# Altium integrated library Microchip dsPIC33E.IntLib: 190 symbols (part 8 of 15)
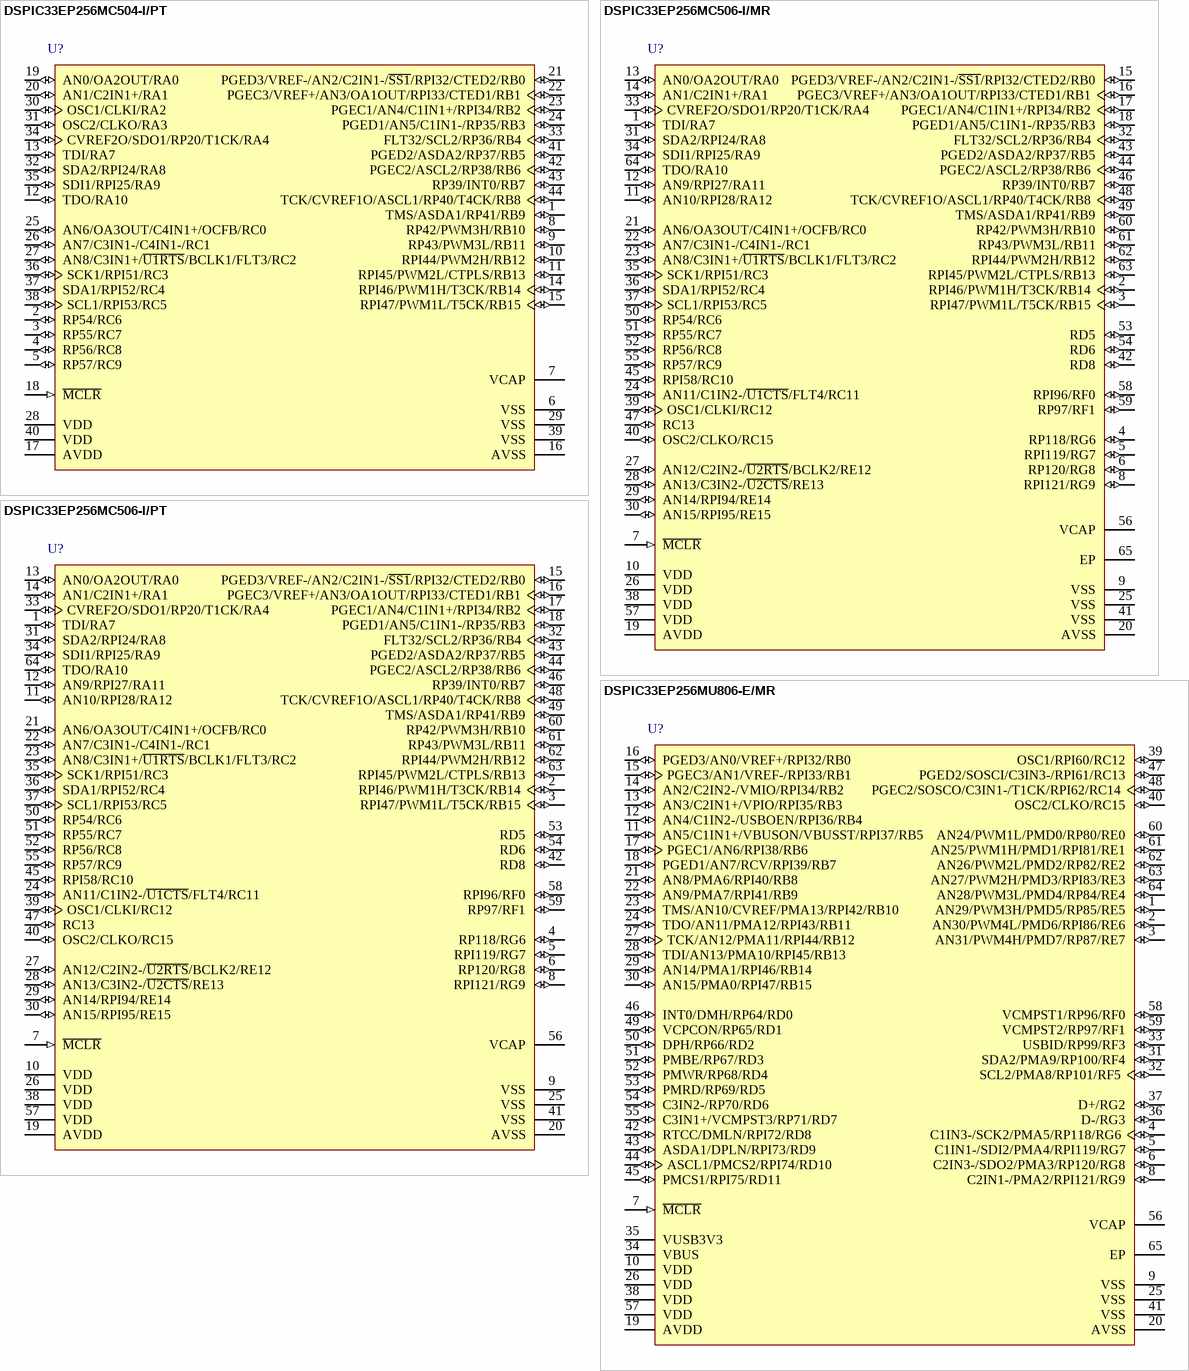
[diagram p69: symbols DSPIC33EP256MC504-I/PT to DSPIC33EP256MU806-E/MR]

## DSPIC33EP256MC504-I/PT
designator U?
16-Bit Microcontroller and Digital Signal Controller with High-Speed PWM, Op Amps and Advanced Analog, 70 MIPS, 35 I/O, GPIO, -40 to 85 degC, 44-pin TQFP (PT44), Tray; Manufacturer: Microchip; PartNumber: DSPIC33EP256MC504-I/PT; DatasheetVersion: Rev. F; PackageVersion: C04-076B; PackageReference: TQFP-PT44; PackageDescription: 44-Lead Plastic Thin Quad Flatpack, 10 x 10 mm Body, 0.8 mm Pitch; Supplier 1: Digi-Key; Supplier Part Number 1: DSPIC33EP256MC504-I/PT-ND; Supplier 2: Farnell; Supplier Part Number 2: 2212184; Supplier 3: Newark; Supplier Part Number 3: 66T8034; Supplier 4: Mouser; Supplier Part Number 4: 579-PC33256MC504IPT; Mounting Technology: Surface Mount; ComponentLink1Description: Manufacturer URL; ComponentLink1URL: http://www.microchip.com; ComponentLink2Description: Datasheet; ComponentLink2URL: http://ww1.microchip.com/downloads/en/DeviceDoc/70657F.pdf; ComponentLink3Description: Package Specification; ComponentLink3URL: http://www.microchip.com/stellent/groups/techpub_sg/documents/packagingspec/en012702.pdf; ComponentLink4Description: Product URL; ComponentLink4URL: http://www.microchip.com/dsPIC33EP256MC504
footprint MCHP-TQFP-PT44_N (QFN, 44-Leads, Body 10x10mm, Pitch 0.8mm, IPC Medium Density)
footprint MCHP-TQFP-PT44_L (QFN, 44-Leads, Body 10x10mm, Pitch 0.8mm, IPC High Density)
footprint MCHP-TQFP-PT44_M (QFN, 44-Leads, Body 10x10mm, Pitch 0.8mm, IPC Low Density)
pins: 1 TMS/ASDA1/RP41/RB9 (io), 2 RP54/RC6 (io), 3 RP55/RC7 (io), 4 RP56/RC8 (io), 5 RP57/RC9 (io), 6 VSS (power) "Ground reference for logic and I/O pins.", 7 VCAP "CPU logic filter capacitor connection", 8 RP42/PWM3H/RB10 (io), 9 RP43/PWM3L/RB11 (io), 10 RPI44/PWM2H/RB12 (io), 11 RPI45/PWM2L/CTPLS/RB13 (io), 12 TDO/RA10 (io), 13 TDI/RA7 (io), 14 RPI46/PWM1H/T3CK/RB14 (io), 15 RPI47/PWM1L/T5CK/RB15 (io), 16 AVSS (power) "Ground reference for analog modules. This pin must be connected at all times.", 17 AVDD (power) "Positive supply for analog modules. This pin must be connected at all times.", 18 ~{MCLR} (in) "Master Clear (Reset) input. This pin is an active-low Reset to the device.", 19 AN0/OA2OUT/RA0 (io), 20 AN1/C2IN1+/RA1 (io), 21 PGED3/VREF-/AN2/C2IN1-/~{SS1}/RPI32/CTED2/RB0 (io), 22 PGEC3/VREF+/AN3/OA1OUT/RPI33/CTED1/RB1 (io), 23 PGEC1/AN4/C1IN1+/RPI34/RB2 (io), 24 PGED1/AN5/C1IN1-/RP35/RB3 (io), 25 AN6/OA3OUT/C4IN1+/OCFB/RC0 (io), 26 AN7/C3IN1-/C4IN1-/RC1 (io), 27 AN8/C3IN1+/~{U1RTS}/BCLK1/FLT3/RC2 (io), 28 VDD (power) "Positive supply for peripheral logic and I/O pins.", 29 VSS (power) "Ground reference for logic and I/O pins.", 30 OSC1/CLKI/RA2 (io), 31 OSC2/CLKO/RA3 (io), 32 SDA2/RPI24/RA8 (io), 33 FLT32/SCL2/RP36/RB4 (io), 34 CVREF2O/SDO1/RP20/T1CK/RA4 (io), 35 SDI1/RPI25/RA9 (io), 36 SCK1/RPI51/RC3 (io), 37 SDA1/RPI52/RC4 (io), 38 SCL1/RPI53/RC5 (io), 39 VSS (power) "Ground reference for logic and I/O pins.", 40 VDD (power) "Positive supply for peripheral logic and I/O pins.", 41 PGED2/ASDA2/RP37/RB5 (io), 42 PGEC2/ASCL2/RP38/RB6 (io), 43 RP39/INT0/RB7 (io), 44 TCK/CVREF1O/ASCL1/RP40/T4CK/RB8 (io)

## DSPIC33EP256MC506-I/MR
designator U?
16-Bit Microcontroller and Digital Signal Controller with High-Speed PWM, Op Amps and Advanced Analog, 70 MIPS, 53 I/O, GPIO, -40 to 85 degC, 64-pin QFN (MR64), Tube; Manufacturer: Microchip; PartNumber: DSPIC33EP256MC506-I/MR; DatasheetVersion: Rev. F; PackageVersion: C04-149C; PackageReference: QFN-MR64; PackageDescription: 64-Lead Plastic Quad Flat, 9 x 9 mm Body, 0.5 mm Pitch; Supplier 1: Digi-Key; Supplier Part Number 1: DSPIC33EP256MC506-I/MR-ND; Supplier 2: Farnell; Supplier Part Number 2: 2212181; Supplier 3: Newark; Supplier Part Number 3: 66T8043; Supplier 4: Mouser; Supplier Part Number 4: 579-PC33256MC506IMR; Mounting Technology: Surface Mount; ComponentLink1Description: Manufacturer URL; ComponentLink1URL: http://www.microchip.com; ComponentLink2Description: Datasheet; ComponentLink2URL: http://ww1.microchip.com/downloads/en/DeviceDoc/70657F.pdf; ComponentLink3Description: Package Specification; ComponentLink3URL: http://www.microchip.com/stellent/groups/techpub_sg/documents/packagingspec/en012702.pdf; ComponentLink4Description: Product URL; ComponentLink4URL: http://www.microchip.com/dsPIC33EP256MC506
footprint MCHP-QFN-MR64-7275X7275TP_N (QFN, 64-Leads, Body 9x9mm, Pitch 0.5mm, Thermal Pad 7.275x7.275mm, IPC Medium Density)
footprint MCHP-QFN-MR64-7275X7275TP_L (QFN, 64-Leads, Body 9x9mm, Pitch 0.5mm, Thermal Pad 7.275x7.275mm, IPC High Density)
footprint MCHP-QFN-MR64-7275X7275TP_M (QFN, 64-Leads, Body 9x9mm, Pitch 0.5mm, Thermal Pad 7.275x7.275mm, IPC Low Density)
pins: 1 TDI/RA7 (io), 2 RPI46/PWM1H/T3CK/RB14 (io), 3 RPI47/PWM1L/T5CK/RB15 (io), 4 RP118/RG6 (io), 5 RPI119/RG7 (io), 6 RP120/RG8 (io), 7 ~{MCLR} (in) "Master Clear (Reset) input. This pin is an active-low Reset to the device.", 8 RPI121/RG9 (io), 9 VSS (power) "Ground reference for logic and I/O pins.", 10 VDD (power) "Positive supply for peripheral logic and I/O pins.", 11 AN10/RPI28/RA12 (io), 12 AN9/RPI27/RA11 (io), 13 AN0/OA2OUT/RA0 (io), 14 AN1/C2IN1+/RA1 (io), 15 PGED3/VREF-/AN2/C2IN1-/~{SS1}/RPI32/CTED2/RB0 (io), 16 PGEC3/VREF+/AN3/OA1OUT/RPI33/CTED1/RB1 (io), 17 PGEC1/AN4/C1IN1+/RPI34/RB2 (io), 18 PGED1/AN5/C1IN1-/RP35/RB3 (io), 19 AVDD (power) "Positive supply for analog modules. This pin must be connected at all times.", 20 AVSS (power) "Ground reference for analog modules. This pin must be connected at all times.", 21 AN6/OA3OUT/C4IN1+/OCFB/RC0 (io), 22 AN7/C3IN1-/C4IN1-/RC1 (io), 23 AN8/C3IN1+/~{U1RTS}/BCLK1/FLT3/RC2 (io), 24 AN11/C1IN2-/~{U1CTS}/FLT4/RC11 (io), 25 VSS (power) "Ground reference for logic and I/O pins.", 26 VDD (power) "Positive supply for peripheral logic and I/O pins.", 27 AN12/C2IN2-/~{U2RTS}/BCLK2/RE12 (io), 28 AN13/C3IN2-/~{U2CTS}/RE13 (io), 29 AN14/RPI94/RE14 (io), 30 AN15/RPI95/RE15 (io), 31 SDA2/RPI24/RA8 (io), 32 FLT32/SCL2/RP36/RB4 (io), 33 CVREF2O/SDO1/RP20/T1CK/RA4 (io), 34 SDI1/RPI25/RA9 (io), 35 SCK1/RPI51/RC3 (io), 36 SDA1/RPI52/RC4 (io), 37 SCL1/RPI53/RC5 (io), 38 VDD (power) "Positive supply for peripheral logic and I/O pins.", 39 OSC1/CLKI/RC12 (io), 40 OSC2/CLKO/RC15 (io), 41 VSS (power) "Ground reference for logic and I/O pins.", 42 RD8 (io) "PORTD is a bidirectional I/O port", 43 PGED2/ASDA2/RP37/RB5 (io), 44 PGEC2/ASCL2/RP38/RB6 (io), 45 RPI58/RC10 (io), 46 RP39/INT0/RB7 (io), 47 RC13 (io) "PORTC is a bidirectional I/O port", 48 TCK/CVREF1O/ASCL1/RP40/T4CK/RB8 (io), 49 TMS/ASDA1/RP41/RB9 (io), 50 RP54/RC6 (io), 51 RP55/RC7 (io), 52 RP56/RC8 (io), 53 RD5 (io) "PORTD is a bidirectional I/O port", 54 RD6 (io) "PORTD is a bidirectional I/O port", 55 RP57/RC9 (io), 56 VCAP "CPU logic filter capacitor connection", 57 VDD (power) "Positive supply for peripheral logic and I/O pins.", 58 RPI96/RF0 (io), 59 RP97/RF1 (io), 60 RP42/PWM3H/RB10 (io), 61 RP43/PWM3L/RB11 (io), 62 RPI44/PWM2H/RB12 (io), 63 RPI45/PWM2L/CTPLS/RB13 (io), 64 TDO/RA10 (io), 65 EP (power) "The metal pad at the bottom of the device is not connected to any pins and is recommended to be connected to VSS externally."

## DSPIC33EP256MC506-I/PT
designator U?
16-Bit Microcontroller and Digital Signal Controller with High-Speed PWM, Op Amps and Advanced Analog, 70 MIPS, 53 I/O, GPIO, -40 to 85 degC, 64-pin TQFP (PT64), Tray; Manufacturer: Microchip; PartNumber: DSPIC33EP256MC506-I/PT; DatasheetVersion: Rev. F; PackageVersion: C04-085B; PackageReference: TQFP-PT64; PackageDescription: 64-Lead Plastic Thin Quad FlatPack, 10 x 10 mm Body, 0.5 mm Pitch; Supplier 1: Digi-Key; Supplier Part Number 1: DSPIC33EP256MC506-I/PT-ND; Supplier 2: Farnell; Supplier Part Number 2: 2212180; Supplier 3: Newark; Supplier Part Number 3: 66T8044; Supplier 4: Newark; Supplier Part Number 4: 55W2354; Supplier 5: Mouser; Supplier Part Number 5: 579-PC33256MC506IPT; Mounting Technology: Surface Mount; ComponentLink1Description: Manufacturer URL; ComponentLink1URL: http://www.microchip.com; ComponentLink2Description: Datasheet; ComponentLink2URL: http://ww1.microchip.com/downloads/en/DeviceDoc/70657F.pdf; ComponentLink3Description: Package Specification; ComponentLink3URL: http://www.microchip.com/stellent/groups/techpub_sg/documents/packagingspec/en012702.pdf; ComponentLink4Description: Product URL; ComponentLink4URL: http://www.microchip.com/dsPIC33EP256MC506
footprint MCHP-TQFP-PT64_N (TQFP, 64-Leads, Body 10x10mm, Pitch 0.5mm, IPC Medium Density)
footprint MCHP-TQFP-PT64_L (TQFP, 64-Leads, Body 10x10mm, Pitch 0.5mm, IPC High Density)
footprint MCHP-TQFP-PT64_M (TQFP, 64-Leads, Body 10x10mm, Pitch 0.5mm, IPC Low Density)
pins: 1 TDI/RA7 (io), 2 RPI46/PWM1H/T3CK/RB14 (io), 3 RPI47/PWM1L/T5CK/RB15 (io), 4 RP118/RG6 (io), 5 RPI119/RG7 (io), 6 RP120/RG8 (io), 7 ~{MCLR} (in) "Master Clear (Reset) input. This pin is an active-low Reset to the device.", 8 RPI121/RG9 (io), 9 VSS (power) "Ground reference for logic and I/O pins.", 10 VDD (power) "Positive supply for peripheral logic and I/O pins.", 11 AN10/RPI28/RA12 (io), 12 AN9/RPI27/RA11 (io), 13 AN0/OA2OUT/RA0 (io), 14 AN1/C2IN1+/RA1 (io), 15 PGED3/VREF-/AN2/C2IN1-/~{SS1}/RPI32/CTED2/RB0 (io), 16 PGEC3/VREF+/AN3/OA1OUT/RPI33/CTED1/RB1 (io), 17 PGEC1/AN4/C1IN1+/RPI34/RB2 (io), 18 PGED1/AN5/C1IN1-/RP35/RB3 (io), 19 AVDD (power) "Positive supply for analog modules. This pin must be connected at all times.", 20 AVSS "Ground reference for analog modules. This pin must be connected at all times.", 21 AN6/OA3OUT/C4IN1+/OCFB/RC0 (io), 22 AN7/C3IN1-/C4IN1-/RC1 (io), 23 AN8/C3IN1+/~{U1RTS}/BCLK1/FLT3/RC2 (io), 24 AN11/C1IN2-/~{U1CTS}/FLT4/RC11 (io), 25 VSS "Ground reference for logic and I/O pins.", 26 VDD (power) "Positive supply for peripheral logic and I/O pins.", 27 AN12/C2IN2-/~{U2RTS}/BCLK2/RE12 (io), 28 AN13/C3IN2-/~{U2CTS}/RE13 (io), 29 AN14/RPI94/RE14 (io), 30 AN15/RPI95/RE15 (io), 31 SDA2/RPI24/RA8 (io), 32 FLT32/SCL2/RP36/RB4 (io), 33 CVREF2O/SDO1/RP20/T1CK/RA4 (io), 34 SDI1/RPI25/RA9 (io), 35 SCK1/RPI51/RC3 (io), 36 SDA1/RPI52/RC4 (io), 37 SCL1/RPI53/RC5 (io), 38 VDD (power) "Positive supply for peripheral logic and I/O pins.", 39 OSC1/CLKI/RC12 (io), 40 OSC2/CLKO/RC15 (io), 41 VSS "Ground reference for logic and I/O pins.", 42 RD8 (io) "PORTD is a bidirectional I/O port", 43 PGED2/ASDA2/RP37/RB5 (io), 44 PGEC2/ASCL2/RP38/RB6 (io), 45 RPI58/RC10 (io), 46 RP39/INT0/RB7 (io), 47 RC13 (io) "PORTC is a bidirectional I/O port", 48 TCK/CVREF1O/ASCL1/RP40/T4CK/RB8 (io), 49 TMS/ASDA1/RP41/RB9 (io), 50 RP54/RC6 (io), 51 RP55/RC7 (io), 52 RP56/RC8 (io), 53 RD5 (io) "PORTD is a bidirectional I/O port", 54 RD6 (io) "PORTD is a bidirectional I/O port", 55 RP57/RC9 (io), 56 VCAP "CPU logic filter capacitor connection", 57 VDD (power) "Positive supply for peripheral logic and I/O pins.", 58 RPI96/RF0 (io), 59 RP97/RF1 (io), 60 RP42/PWM3H/RB10 (io), 61 RP43/PWM3L/RB11 (io), 62 RPI44/PWM2H/RB12 (io), 63 RPI45/PWM2L/CTPLS/RB13 (io), 64 TDO/RA10 (io)

## DSPIC33EP256MU806-E/MR
designator U?
16-Bit Microcontroller and Digital Signal Controller with High-Speed PWM, USB and Advanced Analog, 70 MIPS, 53 I/O, PMP, -40 to 125 degC, 64-pin QFN (MR64), Tube; Manufacturer: Microchip; PartNumber: DSPIC33EP256MU806-E/MR; DatasheetVersion: Rev. G; PackageVersion: C04-149C; PackageReference: QFN-MR64; PackageDescription: 64-Lead Plastic Quad Flat, 9 x 9 mm Body, 0.5 mm Pitch; Supplier 1: Digi-Key; Supplier Part Number 1: DSPIC33EP256MU806-E/MR-ND; Supplier 2: Mouser; Supplier Part Number 2: 579-PIC33256MU806EMR; Mounting Technology: Surface Mount; ComponentLink1Description: Manufacturer URL; ComponentLink1URL: http://www.microchip.com; ComponentLink2Description: Datasheet; ComponentLink2URL: http://ww1.microchip.com/downloads/en/DeviceDoc/70616g.pdf; ComponentLink3Description: Package Specification; ComponentLink3URL: http://www.microchip.com/stellent/groups/techpub_sg/documents/packagingspec/en012702.pdf; ComponentLink4Description: Product URL; ComponentLink4URL: http://www.microchip.com/dsPIC33EP256MU806
footprint MCHP-QFN-MR64-7275X7275TP_N (QFN, 64-Leads, Body 9x9mm, Pitch 0.5mm, Thermal Pad 7.275x7.275mm, IPC Medium Density)
footprint MCHP-QFN-MR64-7275X7275TP_L (QFN, 64-Leads, Body 9x9mm, Pitch 0.5mm, Thermal Pad 7.275x7.275mm, IPC High Density)
footprint MCHP-QFN-MR64-7275X7275TP_M (QFN, 64-Leads, Body 9x9mm, Pitch 0.5mm, Thermal Pad 7.275x7.275mm, IPC Low Density)
pins: 1 AN29/PWM3H/PMD5/RP85/RE5 (io), 2 AN30/PWM4L/PMD6/RPI86/RE6 (io), 3 AN31/PWM4H/PMD7/RP87/RE7 (io), 4 C1IN3-/SCK2/PMA5/RP118/RG6 (io), 5 C1IN1-/SDI2/PMA4/RPI119/RG7 (io), 6 C2IN3-/SDO2/PMA3/RP120/RG8 (io), 7 ~{MCLR} (in) "Master Clear (Reset) input. This pin is an active-low Reset to the device.", 8 C2IN1-/PMA2/RPI121/RG9 (io), 9 VSS (power) "Ground reference for logic and I/O pins.", 10 VDD (power) "Positive supply for peripheral logic and I/O pins.", 11 AN5/C1IN1+/VBUSON/VBUSST/RPI37/RB5 (io), 12 AN4/C1IN2-/USBOEN/RPI36/RB4 (io), 13 AN3/C2IN1+/VPIO/RPI35/RB3 (io), 14 AN2/C2IN2-/VMIO/RPI34/RB2 (io), 15 PGEC3/AN1/VREF-/RPI33/RB1 (io), 16 PGED3/AN0/VREF+/RPI32/RB0 (io), 17 PGEC1/AN6/RPI38/RB6 (io), 18 PGED1/AN7/RCV/RPI39/RB7 (io), 19 AVDD (power) "Positive supply for analog modules. This pin must be connected at all times.", 20 AVSS (power) "Ground reference for analog modules.", 21 AN8/PMA6/RPI40/RB8 (io), 22 AN9/PMA7/RPI41/RB9 (io), 23 TMS/AN10/CVREF/PMA13/RPI42/RB10 (io), 24 TDO/AN11/PMA12/RPI43/RB11 (io), 25 VSS (power) "Ground reference for logic and I/O pins.", 26 VDD (power) "Positive supply for peripheral logic and I/O pins.", 27 TCK/AN12/PMA11/RPI44/RB12 (io), 28 TDI/AN13/PMA10/RPI45/RB13 (io), 29 AN14/PMA1/RPI46/RB14 (io), 30 AN15/PMA0/RPI47/RB15 (io), 31 SDA2/PMA9/RP100/RF4 (io), 32 SCL2/PMA8/RP101/RF5 (io), 33 USBID/RP99/RF3 (io), 34 VBUS (power) "USB bus power monitor.", 35 VUSB3V3 (power) "USB internal transceiver supply. If the USB module is not being used, this pin must be connected to VDD.", 36 D-/RG3 (io), 37 D+/RG2 (io), 38 VDD (power) "Positive supply for peripheral logic and I/O pins.", 39 OSC1/RPI60/RC12 (io), 40 OSC2/CLKO/RC15 (io), 41 VSS (power) "Ground reference for logic and I/O pins.", 42 RTCC/DMLN/RPI72/RD8 (io), 43 ASDA1/DPLN/RPI73/RD9 (io), 44 ASCL1/PMCS2/RPI74/RD10 (io), 45 PMCS1/RPI75/RD11 (io), 46 INT0/DMH/RP64/RD0 (io), 47 PGED2/SOSCI/C3IN3-/RPI61/RC13 (io), 48 PGEC2/SOSCO/C3IN1-/T1CK/RPI62/RC14 (io), 49 VCPCON/RP65/RD1 (io), 50 DPH/RP66/RD2 (io), 51 PMBE/RP67/RD3 (io), 52 PMWR/RP68/RD4 (io), 53 PMRD/RP69/RD5 (io), 54 C3IN2-/RP70/RD6 (io), 55 C3IN1+/VCMPST3/RP71/RD7 (io), 56 VCAP "CPU logic filter capacitor connection.", 57 VDD (power) "Positive supply for peripheral logic and I/O pins.", 58 VCMPST1/RP96/RF0 (io), 59 VCMPST2/RP97/RF1 (io), 60 AN24/PWM1L/PMD0/RP80/RE0 (io), 61 AN25/PWM1H/PMD1/RPI81/RE1 (io), 62 AN26/PWM2L/PMD2/RP82/RE2 (io), 63 AN27/PWM2H/PMD3/RPI83/RE3 (io), 64 AN28/PWM3L/PMD4/RP84/RE4 (io), 65 EP

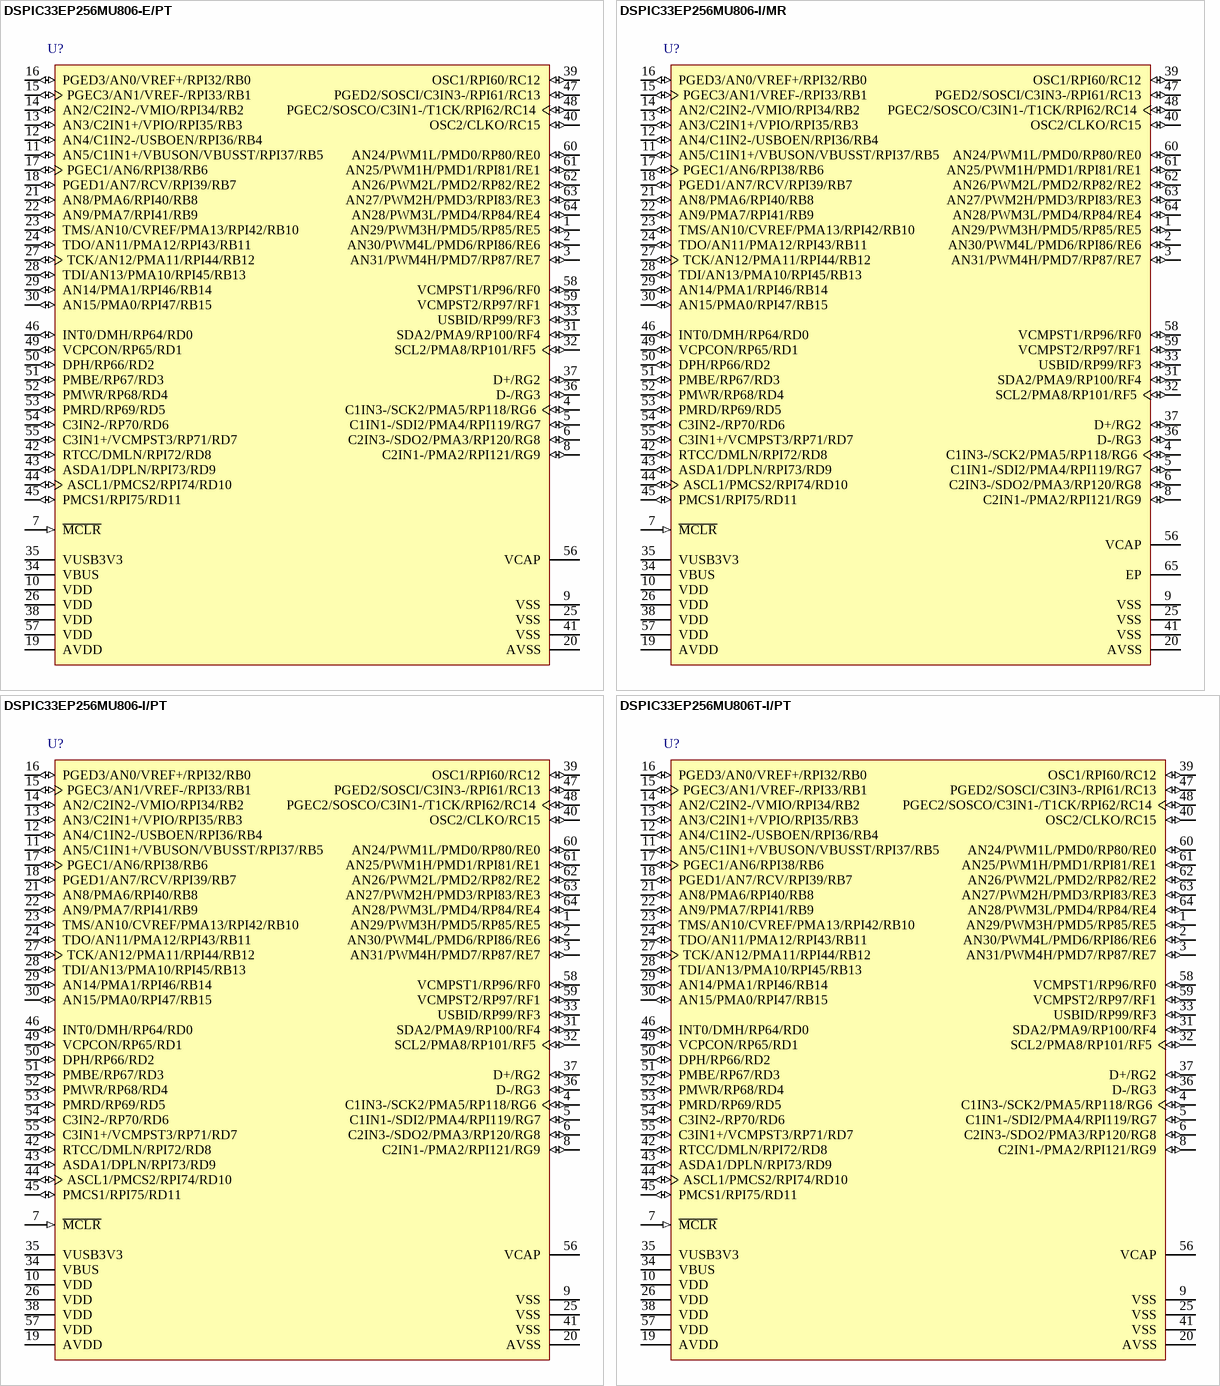
[diagram p24: symbols DSPIC33EP256MU806-E/PT to DSPIC33EP256MU806T-I/PT]

## DSPIC33EP256MU806-E/PT
designator U?
16-Bit Microcontroller and Digital Signal Controller with High-Speed PWM, USB and Advanced Analog, 70 MIPS, 53 I/O, PMP, -40 to 125 degC, 64-pin TQFP (PT64), Tray; Manufacturer: Microchip; PartNumber: DSPIC33EP256MU806-E/PT; DatasheetVersion: Rev. G; PackageVersion: C04-085B; PackageReference: TQFP-PT64; PackageDescription: 64-Lead Plastic Thin Quad FlatPack, 10 x 10 mm Body, 0.5 mm Pitch; Supplier 1: Digi-Key; Supplier Part Number 1: DSPIC33EP256MU806-E/PT-ND; Supplier 2: Newark; Supplier Part Number 2: 65R5388; Supplier 3: Mouser; Supplier Part Number 3: 579-PIC33256MU806T; Mounting Technology: Surface Mount; ComponentLink1Description: Manufacturer URL; ComponentLink1URL: http://www.microchip.com; ComponentLink2Description: Datasheet; ComponentLink2URL: http://ww1.microchip.com/downloads/en/DeviceDoc/70616g.pdf; ComponentLink3Description: Package Specification; ComponentLink3URL: http://www.microchip.com/stellent/groups/techpub_sg/documents/packagingspec/en012702.pdf; ComponentLink4Description: Product URL; ComponentLink4URL: http://www.microchip.com/dsPIC33EP256MU806
footprint MCHP-TQFP-PT64_N (TQFP, 64-Leads, Body 10x10mm, Pitch 0.5mm, IPC Medium Density)
footprint MCHP-TQFP-PT64_L (TQFP, 64-Leads, Body 10x10mm, Pitch 0.5mm, IPC High Density)
footprint MCHP-TQFP-PT64_M (TQFP, 64-Leads, Body 10x10mm, Pitch 0.5mm, IPC Low Density)
pins: 1 AN29/PWM3H/PMD5/RP85/RE5 (io), 2 AN30/PWM4L/PMD6/RPI86/RE6 (io), 3 AN31/PWM4H/PMD7/RP87/RE7 (io), 4 C1IN3-/SCK2/PMA5/RP118/RG6 (io), 5 C1IN1-/SDI2/PMA4/RPI119/RG7 (io), 6 C2IN3-/SDO2/PMA3/RP120/RG8 (io), 7 ~{MCLR} (in) "Master Clear (Reset) input. This pin is an active-low Reset to the device.", 8 C2IN1-/PMA2/RPI121/RG9 (io), 9 VSS (power) "Ground reference for logic and I/O pins.", 10 VDD (power) "Positive supply for peripheral logic and I/O pins.", 11 AN5/C1IN1+/VBUSON/VBUSST/RPI37/RB5 (io), 12 AN4/C1IN2-/USBOEN/RPI36/RB4 (io), 13 AN3/C2IN1+/VPIO/RPI35/RB3 (io), 14 AN2/C2IN2-/VMIO/RPI34/RB2 (io), 15 PGEC3/AN1/VREF-/RPI33/RB1 (io), 16 PGED3/AN0/VREF+/RPI32/RB0 (io), 17 PGEC1/AN6/RPI38/RB6 (io), 18 PGED1/AN7/RCV/RPI39/RB7 (io), 19 AVDD (power) "Positive supply for analog modules. This pin must be connected at all times.", 20 AVSS (power) "Ground reference for analog modules.", 21 AN8/PMA6/RPI40/RB8 (io), 22 AN9/PMA7/RPI41/RB9 (io), 23 TMS/AN10/CVREF/PMA13/RPI42/RB10 (io), 24 TDO/AN11/PMA12/RPI43/RB11 (io), 25 VSS (power) "Ground reference for logic and I/O pins.", 26 VDD (power) "Positive supply for peripheral logic and I/O pins.", 27 TCK/AN12/PMA11/RPI44/RB12 (io), 28 TDI/AN13/PMA10/RPI45/RB13 (io), 29 AN14/PMA1/RPI46/RB14 (io), 30 AN15/PMA0/RPI47/RB15 (io), 31 SDA2/PMA9/RP100/RF4 (io), 32 SCL2/PMA8/RP101/RF5 (io), 33 USBID/RP99/RF3 (io), 34 VBUS (power) "USB bus power monitor.", 35 VUSB3V3 (power) "USB internal transceiver supply. If the USB module is not being used, this pin must be connected to VDD.", 36 D-/RG3 (io), 37 D+/RG2 (io), 38 VDD (power) "Positive supply for peripheral logic and I/O pins.", 39 OSC1/RPI60/RC12 (io), 40 OSC2/CLKO/RC15 (io), 41 VSS (power) "Ground reference for logic and I/O pins.", 42 RTCC/DMLN/RPI72/RD8 (io), 43 ASDA1/DPLN/RPI73/RD9 (io), 44 ASCL1/PMCS2/RPI74/RD10 (io), 45 PMCS1/RPI75/RD11 (io), 46 INT0/DMH/RP64/RD0 (io), 47 PGED2/SOSCI/C3IN3-/RPI61/RC13 (io), 48 PGEC2/SOSCO/C3IN1-/T1CK/RPI62/RC14 (io), 49 VCPCON/RP65/RD1 (io), 50 DPH/RP66/RD2 (io), 51 PMBE/RP67/RD3 (io), 52 PMWR/RP68/RD4 (io), 53 PMRD/RP69/RD5 (io), 54 C3IN2-/RP70/RD6 (io), 55 C3IN1+/VCMPST3/RP71/RD7 (io), 56 VCAP "CPU logic filter capacitor connection.", 57 VDD (power) "Positive supply for peripheral logic and I/O pins.", 58 VCMPST1/RP96/RF0 (io), 59 VCMPST2/RP97/RF1 (io), 60 AN24/PWM1L/PMD0/RP80/RE0 (io), 61 AN25/PWM1H/PMD1/RPI81/RE1 (io), 62 AN26/PWM2L/PMD2/RP82/RE2 (io), 63 AN27/PWM2H/PMD3/RPI83/RE3 (io), 64 AN28/PWM3L/PMD4/RP84/RE4 (io)

## DSPIC33EP256MU806-I/MR
designator U?
16-Bit Microcontroller and Digital Signal Controller with High-Speed PWM, USB and Advanced Analog, 70 MIPS, 53 I/O, PMP, -40 to 85 degC, 64-pin QFN (MR64), Tube; Manufacturer: Microchip; PartNumber: DSPIC33EP256MU806-I/MR; DatasheetVersion: Rev. G; PackageVersion: C04-149C; PackageReference: QFN-MR64; PackageDescription: 64-Lead Plastic Quad Flat, 9 x 9 mm Body, 0.5 mm Pitch; Supplier 1: Digi-Key; Supplier Part Number 1: DSPIC33EP256MU806-I/MR-ND; Supplier 2: Farnell; Supplier Part Number 2: 2074909; Supplier 3: Newark; Supplier Part Number 3: 65R5389; Supplier 4: Mouser; Supplier Part Number 4: 579-PIC33256MU806IMR; Mounting Technology: Surface Mount; ComponentLink1Description: Manufacturer URL; ComponentLink1URL: http://www.microchip.com; ComponentLink2Description: Datasheet; ComponentLink2URL: http://ww1.microchip.com/downloads/en/DeviceDoc/70616g.pdf; ComponentLink3Description: Package Specification; ComponentLink3URL: http://www.microchip.com/stellent/groups/techpub_sg/documents/packagingspec/en012702.pdf; ComponentLink4Description: Product URL; ComponentLink4URL: http://www.microchip.com/dsPIC33EP256MU806
footprint MCHP-QFN-MR64-7275X7275TP_N (QFN, 64-Leads, Body 9x9mm, Pitch 0.5mm, Thermal Pad 7.275x7.275mm, IPC Medium Density)
footprint MCHP-QFN-MR64-7275X7275TP_L (QFN, 64-Leads, Body 9x9mm, Pitch 0.5mm, Thermal Pad 7.275x7.275mm, IPC High Density)
footprint MCHP-QFN-MR64-7275X7275TP_M (QFN, 64-Leads, Body 9x9mm, Pitch 0.5mm, Thermal Pad 7.275x7.275mm, IPC Low Density)
pins: 1 AN29/PWM3H/PMD5/RP85/RE5 (io), 2 AN30/PWM4L/PMD6/RPI86/RE6 (io), 3 AN31/PWM4H/PMD7/RP87/RE7 (io), 4 C1IN3-/SCK2/PMA5/RP118/RG6 (io), 5 C1IN1-/SDI2/PMA4/RPI119/RG7 (io), 6 C2IN3-/SDO2/PMA3/RP120/RG8 (io), 7 ~{MCLR} (in) "Master Clear (Reset) input. This pin is an active-low Reset to the device.", 8 C2IN1-/PMA2/RPI121/RG9 (io), 9 VSS (power) "Ground reference for logic and I/O pins.", 10 VDD (power) "Positive supply for peripheral logic and I/O pins.", 11 AN5/C1IN1+/VBUSON/VBUSST/RPI37/RB5 (io), 12 AN4/C1IN2-/USBOEN/RPI36/RB4 (io), 13 AN3/C2IN1+/VPIO/RPI35/RB3 (io), 14 AN2/C2IN2-/VMIO/RPI34/RB2 (io), 15 PGEC3/AN1/VREF-/RPI33/RB1 (io), 16 PGED3/AN0/VREF+/RPI32/RB0 (io), 17 PGEC1/AN6/RPI38/RB6 (io), 18 PGED1/AN7/RCV/RPI39/RB7 (io), 19 AVDD (power) "Positive supply for analog modules. This pin must be connected at all times.", 20 AVSS (power) "Ground reference for analog modules.", 21 AN8/PMA6/RPI40/RB8 (io), 22 AN9/PMA7/RPI41/RB9 (io), 23 TMS/AN10/CVREF/PMA13/RPI42/RB10 (io), 24 TDO/AN11/PMA12/RPI43/RB11 (io), 25 VSS (power) "Ground reference for logic and I/O pins.", 26 VDD (power) "Positive supply for peripheral logic and I/O pins.", 27 TCK/AN12/PMA11/RPI44/RB12 (io), 28 TDI/AN13/PMA10/RPI45/RB13 (io), 29 AN14/PMA1/RPI46/RB14 (io), 30 AN15/PMA0/RPI47/RB15 (io), 31 SDA2/PMA9/RP100/RF4 (io), 32 SCL2/PMA8/RP101/RF5 (io), 33 USBID/RP99/RF3 (io), 34 VBUS (power) "USB bus power monitor.", 35 VUSB3V3 (power) "USB internal transceiver supply. If the USB module is not being used, this pin must be connected to VDD.", 36 D-/RG3 (io), 37 D+/RG2 (io), 38 VDD (power) "Positive supply for peripheral logic and I/O pins.", 39 OSC1/RPI60/RC12 (io), 40 OSC2/CLKO/RC15 (io), 41 VSS (power) "Ground reference for logic and I/O pins.", 42 RTCC/DMLN/RPI72/RD8 (io), 43 ASDA1/DPLN/RPI73/RD9 (io), 44 ASCL1/PMCS2/RPI74/RD10 (io), 45 PMCS1/RPI75/RD11 (io), 46 INT0/DMH/RP64/RD0 (io), 47 PGED2/SOSCI/C3IN3-/RPI61/RC13 (io), 48 PGEC2/SOSCO/C3IN1-/T1CK/RPI62/RC14 (io), 49 VCPCON/RP65/RD1 (io), 50 DPH/RP66/RD2 (io), 51 PMBE/RP67/RD3 (io), 52 PMWR/RP68/RD4 (io), 53 PMRD/RP69/RD5 (io), 54 C3IN2-/RP70/RD6 (io), 55 C3IN1+/VCMPST3/RP71/RD7 (io), 56 VCAP "CPU logic filter capacitor connection.", 57 VDD (power) "Positive supply for peripheral logic and I/O pins.", 58 VCMPST1/RP96/RF0 (io), 59 VCMPST2/RP97/RF1 (io), 60 AN24/PWM1L/PMD0/RP80/RE0 (io), 61 AN25/PWM1H/PMD1/RPI81/RE1 (io), 62 AN26/PWM2L/PMD2/RP82/RE2 (io), 63 AN27/PWM2H/PMD3/RPI83/RE3 (io), 64 AN28/PWM3L/PMD4/RP84/RE4 (io), 65 EP

## DSPIC33EP256MU806-I/PT
designator U?
16-Bit Microcontroller and Digital Signal Controller with High-Speed PWM, USB and Advanced Analog, 70 MIPS, 53 I/O, PMP, -40 to 85 degC, 64-pin TQFP (PT64), Tray; Manufacturer: Microchip; PartNumber: DSPIC33EP256MU806-I/PT; DatasheetVersion: Rev. G; PackageVersion: C04-085B; PackageReference: TQFP-PT64; PackageDescription: 64-Lead Plastic Thin Quad FlatPack, 10 x 10 mm Body, 0.5 mm Pitch; Supplier 1: Digi-Key; Supplier Part Number 1: DSPIC33EP256MU806-I/PT-ND; Supplier 2: Farnell; Supplier Part Number 2: 1971850; Supplier 3: Farnell; Supplier Part Number 3: 2119666; Supplier 4: Newark; Supplier Part Number 4: 65R5390; Supplier 5: Mouser; Supplier Part Number 5: 579-PIC33256MU806IPT; Mounting Technology: Surface Mount; ComponentLink1Description: Manufacturer URL; ComponentLink1URL: http://www.microchip.com; ComponentLink2Description: Datasheet; ComponentLink2URL: http://ww1.microchip.com/downloads/en/DeviceDoc/70616g.pdf; ComponentLink3Description: Package Specification; ComponentLink3URL: http://www.microchip.com/stellent/groups/techpub_sg/documents/packagingspec/en012702.pdf; ComponentLink4Description: Product URL; ComponentLink4URL: http://www.microchip.com/dsPIC33EP256MU806
footprint MCHP-TQFP-PT64_N (TQFP, 64-Leads, Body 10x10mm, Pitch 0.5mm, IPC Medium Density)
footprint MCHP-TQFP-PT64_L (TQFP, 64-Leads, Body 10x10mm, Pitch 0.5mm, IPC High Density)
footprint MCHP-TQFP-PT64_M (TQFP, 64-Leads, Body 10x10mm, Pitch 0.5mm, IPC Low Density)
pins: 1 AN29/PWM3H/PMD5/RP85/RE5 (io), 2 AN30/PWM4L/PMD6/RPI86/RE6 (io), 3 AN31/PWM4H/PMD7/RP87/RE7 (io), 4 C1IN3-/SCK2/PMA5/RP118/RG6 (io), 5 C1IN1-/SDI2/PMA4/RPI119/RG7 (io), 6 C2IN3-/SDO2/PMA3/RP120/RG8 (io), 7 ~{MCLR} (in) "Master Clear (Reset) input. This pin is an active-low Reset to the device.", 8 C2IN1-/PMA2/RPI121/RG9 (io), 9 VSS (power) "Ground reference for logic and I/O pins.", 10 VDD (power) "Positive supply for peripheral logic and I/O pins.", 11 AN5/C1IN1+/VBUSON/VBUSST/RPI37/RB5 (io), 12 AN4/C1IN2-/USBOEN/RPI36/RB4 (io), 13 AN3/C2IN1+/VPIO/RPI35/RB3 (io), 14 AN2/C2IN2-/VMIO/RPI34/RB2 (io), 15 PGEC3/AN1/VREF-/RPI33/RB1 (io), 16 PGED3/AN0/VREF+/RPI32/RB0 (io), 17 PGEC1/AN6/RPI38/RB6 (io), 18 PGED1/AN7/RCV/RPI39/RB7 (io), 19 AVDD (power) "Positive supply for analog modules. This pin must be connected at all times.", 20 AVSS (power) "Ground reference for analog modules.", 21 AN8/PMA6/RPI40/RB8 (io), 22 AN9/PMA7/RPI41/RB9 (io), 23 TMS/AN10/CVREF/PMA13/RPI42/RB10 (io), 24 TDO/AN11/PMA12/RPI43/RB11 (io), 25 VSS (power) "Ground reference for logic and I/O pins.", 26 VDD (power) "Positive supply for peripheral logic and I/O pins.", 27 TCK/AN12/PMA11/RPI44/RB12 (io), 28 TDI/AN13/PMA10/RPI45/RB13 (io), 29 AN14/PMA1/RPI46/RB14 (io), 30 AN15/PMA0/RPI47/RB15 (io), 31 SDA2/PMA9/RP100/RF4 (io), 32 SCL2/PMA8/RP101/RF5 (io), 33 USBID/RP99/RF3 (io), 34 VBUS (power) "USB bus power monitor.", 35 VUSB3V3 (power) "USB internal transceiver supply. If the USB module is not being used, this pin must be connected to VDD.", 36 D-/RG3 (io), 37 D+/RG2 (io), 38 VDD (power) "Positive supply for peripheral logic and I/O pins.", 39 OSC1/RPI60/RC12 (io), 40 OSC2/CLKO/RC15 (io), 41 VSS (power) "Ground reference for logic and I/O pins.", 42 RTCC/DMLN/RPI72/RD8 (io), 43 ASDA1/DPLN/RPI73/RD9 (io), 44 ASCL1/PMCS2/RPI74/RD10 (io), 45 PMCS1/RPI75/RD11 (io), 46 INT0/DMH/RP64/RD0 (io), 47 PGED2/SOSCI/C3IN3-/RPI61/RC13 (io), 48 PGEC2/SOSCO/C3IN1-/T1CK/RPI62/RC14 (io), 49 VCPCON/RP65/RD1 (io), 50 DPH/RP66/RD2 (io), 51 PMBE/RP67/RD3 (io), 52 PMWR/RP68/RD4 (io), 53 PMRD/RP69/RD5 (io), 54 C3IN2-/RP70/RD6 (io), 55 C3IN1+/VCMPST3/RP71/RD7 (io), 56 VCAP "CPU logic filter capacitor connection.", 57 VDD (power) "Positive supply for peripheral logic and I/O pins.", 58 VCMPST1/RP96/RF0 (io), 59 VCMPST2/RP97/RF1 (io), 60 AN24/PWM1L/PMD0/RP80/RE0 (io), 61 AN25/PWM1H/PMD1/RPI81/RE1 (io), 62 AN26/PWM2L/PMD2/RP82/RE2 (io), 63 AN27/PWM2H/PMD3/RPI83/RE3 (io), 64 AN28/PWM3L/PMD4/RP84/RE4 (io)

## DSPIC33EP256MU806T-I/PT
designator U?
16-Bit Microcontroller and Digital Signal Controller with High-Speed PWM, USB and Advanced Analog, 70 MIPS, 53 I/O, PMP, -40 to 85 degC, 64-pin TQFP (PT64), Tape and Reel; Manufacturer: Microchip; PartNumber: DSPIC33EP256MU806T-I/PT; DatasheetVersion: Rev. G; PackageVersion: C04-085B; PackageReference: TQFP-PT64; PackageDescription: 64-Lead Plastic Thin Quad FlatPack, 10 x 10 mm Body, 0.5 mm Pitch; Supplier 1: Digi-Key; Supplier Part Number 1: DSPIC33EP256MU806T-I/PT-ND; Supplier 2: Mouser; Supplier Part Number 2: 579-PIC33EP256M; Mounting Technology: Surface Mount; ComponentLink1Description: Manufacturer URL; ComponentLink1URL: http://www.microchip.com; ComponentLink2Description: Datasheet; ComponentLink2URL: http://ww1.microchip.com/downloads/en/DeviceDoc/70616g.pdf; ComponentLink3Description: Package Specification; ComponentLink3URL: http://www.microchip.com/stellent/groups/techpub_sg/documents/packagingspec/en012702.pdf; ComponentLink4Description: Product URL; ComponentLink4URL: http://www.microchip.com/dsPIC33EP256MU806
footprint MCHP-TQFP-PT64_N (TQFP, 64-Leads, Body 10x10mm, Pitch 0.5mm, IPC Medium Density)
footprint MCHP-TQFP-PT64_L (TQFP, 64-Leads, Body 10x10mm, Pitch 0.5mm, IPC High Density)
footprint MCHP-TQFP-PT64_M (TQFP, 64-Leads, Body 10x10mm, Pitch 0.5mm, IPC Low Density)
pins: 1 AN29/PWM3H/PMD5/RP85/RE5 (io), 2 AN30/PWM4L/PMD6/RPI86/RE6 (io), 3 AN31/PWM4H/PMD7/RP87/RE7 (io), 4 C1IN3-/SCK2/PMA5/RP118/RG6 (io), 5 C1IN1-/SDI2/PMA4/RPI119/RG7 (io), 6 C2IN3-/SDO2/PMA3/RP120/RG8 (io), 7 ~{MCLR} (in) "Master Clear (Reset) input. This pin is an active-low Reset to the device.", 8 C2IN1-/PMA2/RPI121/RG9 (io), 9 VSS (power) "Ground reference for logic and I/O pins.", 10 VDD (power) "Positive supply for peripheral logic and I/O pins.", 11 AN5/C1IN1+/VBUSON/VBUSST/RPI37/RB5 (io), 12 AN4/C1IN2-/USBOEN/RPI36/RB4 (io), 13 AN3/C2IN1+/VPIO/RPI35/RB3 (io), 14 AN2/C2IN2-/VMIO/RPI34/RB2 (io), 15 PGEC3/AN1/VREF-/RPI33/RB1 (io), 16 PGED3/AN0/VREF+/RPI32/RB0 (io), 17 PGEC1/AN6/RPI38/RB6 (io), 18 PGED1/AN7/RCV/RPI39/RB7 (io), 19 AVDD (power) "Positive supply for analog modules. This pin must be connected at all times.", 20 AVSS (power) "Ground reference for analog modules.", 21 AN8/PMA6/RPI40/RB8 (io), 22 AN9/PMA7/RPI41/RB9 (io), 23 TMS/AN10/CVREF/PMA13/RPI42/RB10 (io), 24 TDO/AN11/PMA12/RPI43/RB11 (io), 25 VSS (power) "Ground reference for logic and I/O pins.", 26 VDD (power) "Positive supply for peripheral logic and I/O pins.", 27 TCK/AN12/PMA11/RPI44/RB12 (io), 28 TDI/AN13/PMA10/RPI45/RB13 (io), 29 AN14/PMA1/RPI46/RB14 (io), 30 AN15/PMA0/RPI47/RB15 (io), 31 SDA2/PMA9/RP100/RF4 (io), 32 SCL2/PMA8/RP101/RF5 (io), 33 USBID/RP99/RF3 (io), 34 VBUS (power) "USB bus power monitor.", 35 VUSB3V3 (power) "USB internal transceiver supply. If the USB module is not being used, this pin must be connected to VDD.", 36 D-/RG3 (io), 37 D+/RG2 (io), 38 VDD (power) "Positive supply for peripheral logic and I/O pins.", 39 OSC1/RPI60/RC12 (io), 40 OSC2/CLKO/RC15 (io), 41 VSS (power) "Ground reference for logic and I/O pins.", 42 RTCC/DMLN/RPI72/RD8 (io), 43 ASDA1/DPLN/RPI73/RD9 (io), 44 ASCL1/PMCS2/RPI74/RD10 (io), 45 PMCS1/RPI75/RD11 (io), 46 INT0/DMH/RP64/RD0 (io), 47 PGED2/SOSCI/C3IN3-/RPI61/RC13 (io), 48 PGEC2/SOSCO/C3IN1-/T1CK/RPI62/RC14 (io), 49 VCPCON/RP65/RD1 (io), 50 DPH/RP66/RD2 (io), 51 PMBE/RP67/RD3 (io), 52 PMWR/RP68/RD4 (io), 53 PMRD/RP69/RD5 (io), 54 C3IN2-/RP70/RD6 (io), 55 C3IN1+/VCMPST3/RP71/RD7 (io), 56 VCAP "CPU logic filter capacitor connection.", 57 VDD (power) "Positive supply for peripheral logic and I/O pins.", 58 VCMPST1/RP96/RF0 (io), 59 VCMPST2/RP97/RF1 (io), 60 AN24/PWM1L/PMD0/RP80/RE0 (io), 61 AN25/PWM1H/PMD1/RPI81/RE1 (io), 62 AN26/PWM2L/PMD2/RP82/RE2 (io), 63 AN27/PWM2H/PMD3/RPI83/RE3 (io), 64 AN28/PWM3L/PMD4/RP84/RE4 (io)

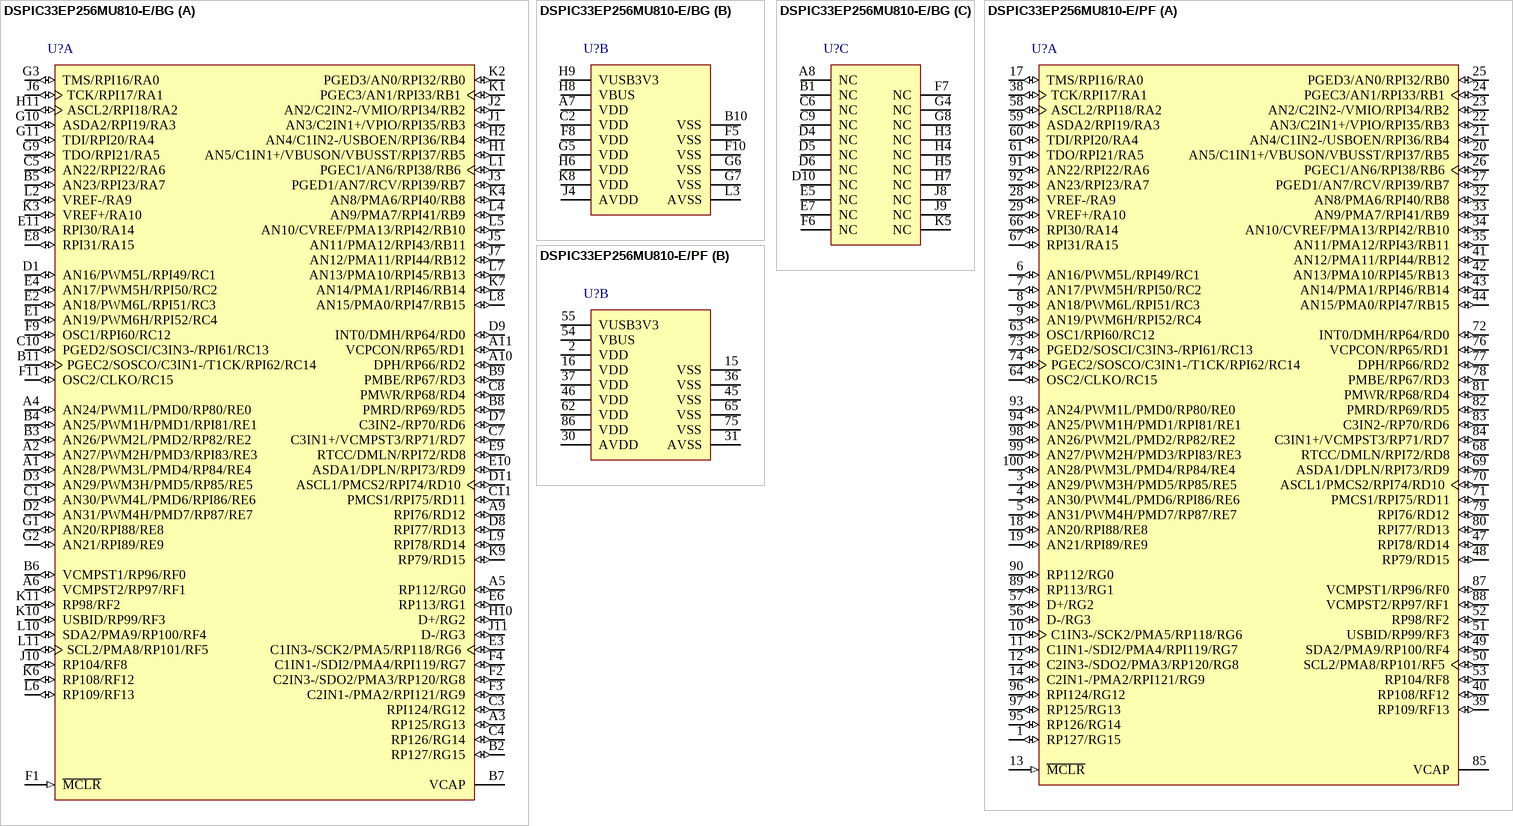
[diagram p25: symbols DSPIC33EP256MU810-E/BG to DSPIC33EP256MU810-E/PF]

## DSPIC33EP256MU810-E/BG
designator U?
16-Bit Microcontroller and Digital Signal Controller with High-Speed PWM, USB and Advanced Analog, 70 MIPS, 83 I/O, PMP, -40 to 125 degC, 121-pin TFBGA (BG121), Tray; Manufacturer: Microchip; PartNumber: DSPIC33EP256MU810-E/BG; DatasheetVersion: Rev. G; PackageVersion: C04-148D; PackageReference: TFBGA-BG121; PackageDescription: 121-Ball Plastic Thin Profile Ball Grid Array, 10 x 10 mm Body, 0.8 mm Pitch; Supplier 1: Digi-Key; Supplier Part Number 1: DSPIC33EP256MU810-E/BG-ND; Supplier 2: Mouser; Supplier Part Number 2: 579-PIC33256MU810EBG; Mounting Technology: Surface Mount; ComponentLink1Description: Manufacturer URL; ComponentLink1URL: http://www.microchip.com; ComponentLink2Description: Datasheet; ComponentLink2URL: http://ww1.microchip.com/downloads/en/DeviceDoc/70616g.pdf; ComponentLink3Description: Package Specification; ComponentLink3URL: http://www.microchip.com/stellent/groups/techpub_sg/documents/packagingspec/en012702.pdf; ComponentLink4Description: Product URL; ComponentLink4URL: http://www.microchip.com/dsPIC33EP256MU810
footprint MCHP-TFBGA-BG121 (BGA, 121-Balls, Body 10x10mm, Pitch 0.8mm)
part A pins: A1 AN28/PWM3L/PMD4/RP84/RE4 (io), A2 AN27/PWM2H/PMD3/RPI83/RE3 (io), A3 RP125/RG13 (io), A4 AN24/PWM1L/PMD0/RP80/RE0 (io), A5 RP112/RG0 (io), A6 VCMPST2/RP97/RF1 (io), A9 RPI76/RD12 (io), A10 DPH/RP66/RD2 (io), A11 VCPCON/RP65/RD1 (io), B2 RP127/RG15 (io), B3 AN26/PWM2L/PMD2/RP82/RE2 (io), B4 AN25/PWM1H/PMD1/RPI81/RE1 (io), B5 AN23/RPI23/RA7 (io), B6 VCMPST1/RP96/RF0 (io), B7 VCAP "CPU logic filter capacitor connection.", B8 PMRD/RP69/RD5 (io), B9 PMBE/RP67/RD3 (io), B11 PGEC2/SOSCO/C3IN1-/T1CK/RPI62/RC14 (io), C1 AN30/PWM4L/PMD6/RPI86/RE6 (io), C3 RPI124/RG12 (io), C4 RP126/RG14 (io), C5 AN22/RPI22/RA6 (io), C7 C3IN1+/VCMPST3/RP71/RD7 (io), C8 PMWR/RP68/RD4 (io), C10 PGED2/SOSCI/C3IN3-/RPI61/RC13 (io), C11 PMCS1/RPI75/RD11 (io), D1 AN16/PWM5L/RPI49/RC1 (io), D2 AN31/PWM4H/PMD7/RP87/RE7 (io), D3 AN29/PWM3H/PMD5/RP85/RE5 (io), D7 C3IN2-/RP70/RD6 (io), D8 RPI77/RD13 (io), D9 INT0/DMH/RP64/RD0 (io), D11 ASCL1/PMCS2/RPI74/RD10 (io), E1 AN19/PWM6H/RPI52/RC4 (io), E2 AN18/PWM6L/RPI51/RC3 (io), E3 C1IN3-/SCK2/PMA5/RP118/RG6 (io), E4 AN17/PWM5H/RPI50/RC2 (io), E6 RP113/RG1 (io), E8 RPI31/RA15 (io), E9 RTCC/DMLN/RPI72/RD8 (io), E10 ASDA1/DPLN/RPI73/RD9 (io), E11 RPI30/RA14 (io), F1 ~{MCLR} (in) "Master Clear (Reset) input. This pin is an active-low Reset to the device.", F2 C2IN3-/SDO2/PMA3/RP120/RG8 (io), F3 C2IN1-/PMA2/RPI121/RG9 (io), F4 C1IN1-/SDI2/PMA4/RPI119/RG7 (io), F9 OSC1/RPI60/RC12 (io), F11 OSC2/CLKO/RC15 (io), G1 AN20/RPI88/RE8 (io), G2 AN21/RPI89/RE9 (io), G3 TMS/RPI16/RA0 (io), G9 TDO/RPI21/RA5 (io), G10 ASDA2/RPI19/RA3 (io), G11 TDI/RPI20/RA4 (io), H1 AN5/C1IN1+/VBUSON/VBUSST/RPI37/RB5 (io), H2 AN4/C1IN2-/USBOEN/RPI36/RB4 (io), H10 D+/RG2 (io) "D+ pin of internal USB transceiver.", H11 ASCL2/RPI18/RA2 (io), J1 AN3/C2IN1+/VPIO/RPI35/RB3 (io), J2 AN2/C2IN2-/VMIO/RPI34/RB2 (io), J3 PGED1/AN7/RCV/RPI39/RB7 (io), J5 AN11/PMA12/RPI43/RB11 (io), J6 TCK/RPI17/RA1 (io), J7 AN12/PMA11/RPI44/RB12 (io), J10 RP104/RF8 (io), J11 D-/RG3 (io) "D- pin of internal USB transceiver.", K1 PGEC3/AN1/RPI33/RB1 (io), K2 PGED3/AN0/RPI32/RB0 (io), K3 VREF+/RA10 (io), K4 AN8/PMA6/RPI40/RB8 (io), K6 RP108/RF12 (io), K7 AN14/PMA1/RPI46/RB14 (io), K9 RP79/RD15 (io), K10 USBID/RP99/RF3 (io), K11 RP98/RF2 (io), L1 PGEC1/AN6/RPI38/RB6 (io), L2 VREF-/RA9 (io), L4 AN9/PMA7/RPI41/RB9 (io), L5 AN10/CVREF/PMA13/RPI42/RB10 (io), L6 RP109/RF13 (io), L7 AN13/PMA10/RPI45/RB13 (io), L8 AN15/PMA0/RPI47/RB15 (io), L9 RPI78/RD14 (io), L10 SDA2/PMA9/RP100/RF4 (io), L11 SCL2/PMA8/RP101/RF5 (io)
part B pins: A7 VDD (power) "Positive supply for peripheral logic and I/O pins.", B10 VSS (power) "Ground reference for logic and I/O pins.", C2 VDD (power) "Positive supply for peripheral logic and I/O pins.", F5 VSS (power) "Ground reference for logic and I/O pins.", F8 VDD (power) "Positive supply for peripheral logic and I/O pins.", F10 VSS (power) "Ground reference for logic and I/O pins.", G5 VDD (power) "Positive supply for peripheral logic and I/O pins.", G6 VSS (power) "Ground reference for logic and I/O pins.", G7 VSS (power) "Ground reference for logic and I/O pins.", H6 VDD (power) "Positive supply for peripheral logic and I/O pins.", H8 VBUS (power) "USB bus power monitor.", H9 VUSB3V3 (power) "USB internal transceiver supply. If the USB module is not being used, this pin must be connected to VDD.", J4 AVDD (power) "Positive supply for analog modules. This pin must be connected at all times.", K8 VDD (power) "Positive supply for peripheral logic and I/O pins.", L3 AVSS (power) "Ground reference for analog modules."
part C pins: A8 NC "No Connect", B1 NC "No Connect", C6 NC "No Connect", C9 NC "No Connect", D4 NC "No Connect", D5 NC "No Connect", D6 NC "No Connect", D10 NC "No Connect", E5 NC "No Connect", E7 NC "No Connect", F6 NC "No Connect", F7 NC "No Connect", G4 NC "No Connect", G8 NC "No Connect", H3 NC "No Connect", H4 NC "No Connect", H5 NC "No Connect", H7 NC "No Connect", J8 NC "No Connect", J9 NC "No Connect", K5 NC "No Connect"

## DSPIC33EP256MU810-E/PF
designator U?
16-Bit Microcontroller and Digital Signal Controller with High-Speed PWM, USB and Advanced Analog, 70 MIPS, 83 I/O, PMP, -40 to 125 degC, 100-pin TQFP (PF100), Tray; Manufacturer: Microchip; PartNumber: DSPIC33EP256MU810-E/PF; DatasheetVersion: Rev. G; PackageVersion: C04-110B; PackageReference: TQFP-PF100; PackageDescription: 100-Lead Thin Plastic Quad Flat Pack, 14 x 14 mm Body, 0.5 mm Pitch; Supplier 1: Digi-Key; Supplier Part Number 1: DSPIC33EP256MU810-E/PF-ND; Supplier 2: Newark; Supplier Part Number 2: 65R5393; Supplier 3: Mouser; Supplier Part Number 3: 579-PIC33256MU810F; Mounting Technology: Surface Mount; ComponentLink1Description: Manufacturer URL; ComponentLink1URL: http://www.microchip.com; ComponentLink2Description: Datasheet; ComponentLink2URL: http://ww1.microchip.com/downloads/en/DeviceDoc/70616g.pdf; ComponentLink3Description: Package Specification; ComponentLink3URL: http://www.microchip.com/stellent/groups/techpub_sg/documents/packagingspec/en012702.pdf; ComponentLink4Description: Product URL; ComponentLink4URL: http://www.microchip.com/dsPIC33EP256MU810
footprint MCHP-TQFP-PF100_N (QFP, 100-Leads, Body 14x14mm, Pitch 0.5mm, IPC Medium Density)
footprint MCHP-TQFP-PF100_L (QFP, 100-Leads, Body 14x14mm, Pitch 0.5mm, IPC High Density)
footprint MCHP-TQFP-PF100_M (QFP, 100-Leads, Body 14x14mm, Pitch 0.5mm, IPC Low Density)
part A pins: 1 RP127/RG15 (io), 3 AN29/PWM3H/PMD5/RP85/RE5 (io), 4 AN30/PWM4L/PMD6/RPI86/RE6 (io), 5 AN31/PWM4H/PMD7/RP87/RE7 (io), 6 AN16/PWM5L/RPI49/RC1 (io), 7 AN17/PWM5H/RPI50/RC2 (io), 8 AN18/PWM6L/RPI51/RC3 (io), 9 AN19/PWM6H/RPI52/RC4 (io), 10 C1IN3-/SCK2/PMA5/RP118/RG6 (io), 11 C1IN1-/SDI2/PMA4/RPI119/RG7 (io), 12 C2IN3-/SDO2/PMA3/RP120/RG8 (io), 13 ~{MCLR} (in) "Master Clear (Reset) input. This pin is an active-low Reset to the device.", 14 C2IN1-/PMA2/RPI121/RG9 (io), 17 TMS/RPI16/RA0 (io), 18 AN20/RPI88/RE8 (io), 19 AN21/RPI89/RE9 (io), 20 AN5/C1IN1+/VBUSON/VBUSST/RPI37/RB5 (io), 21 AN4/C1IN2-/USBOEN/RPI36/RB4 (io), 22 AN3/C2IN1+/VPIO/RPI35/RB3 (io), 23 AN2/C2IN2-/VMIO/RPI34/RB2 (io), 24 PGEC3/AN1/RPI33/RB1 (io), 25 PGED3/AN0/RPI32/RB0 (io), 26 PGEC1/AN6/RPI38/RB6 (io), 27 PGED1/AN7/RCV/RPI39/RB7 (io), 28 VREF-/RA9 (io), 29 VREF+/RA10 (io), 32 AN8/PMA6/RPI40/RB8 (io), 33 AN9/PMA7/RPI41/RB9 (io), 34 AN10/CVREF/PMA13/RPI42/RB10 (io), 35 AN11/PMA12/RPI43/RB11 (io), 38 TCK/RPI17/RA1 (io), 39 RP109/RF13 (io), 40 RP108/RF12 (io), 41 AN12/PMA11/RPI44/RB12 (io), 42 AN13/PMA10/RPI45/RB13 (io), 43 AN14/PMA1/RPI46/RB14 (io), 44 AN15/PMA0/RPI47/RB15 (io), 47 RPI78/RD14 (io), 48 RP79/RD15 (io), 49 SDA2/PMA9/RP100/RF4 (io), 50 SCL2/PMA8/RP101/RF5 (io), 51 USBID/RP99/RF3 (io), 52 RP98/RF2 (io), 53 RP104/RF8 (io), 56 D-/RG3 (io), 57 D+/RG2 (io), 58 ASCL2/RPI18/RA2 (io), 59 ASDA2/RPI19/RA3 (io), 60 TDI/RPI20/RA4 (io), 61 TDO/RPI21/RA5 (io), 63 OSC1/RPI60/RC12 (io), 64 OSC2/CLKO/RC15 (io), 66 RPI30/RA14 (io), 67 RPI31/RA15 (io), 68 RTCC/DMLN/RPI72/RD8 (io), 69 ASDA1/DPLN/RPI73/RD9 (io), 70 ASCL1/PMCS2/RPI74/RD10 (io), 71 PMCS1/RPI75/RD11 (io), 72 INT0/DMH/RP64/RD0 (io), 73 PGED2/SOSCI/C3IN3-/RPI61/RC13 (io), 74 PGEC2/SOSCO/C3IN1-/T1CK/RPI62/RC14 (io), 76 VCPCON/RP65/RD1 (io), 77 DPH/RP66/RD2 (io), 78 PMBE/RP67/RD3 (io), 79 RPI76/RD12 (io), 80 RPI77/RD13 (io), 81 PMWR/RP68/RD4 (io), 82 PMRD/RP69/RD5 (io), 83 C3IN2-/RP70/RD6 (io), 84 C3IN1+/VCMPST3/RP71/RD7 (io), 85 VCAP "CPU logic filter capacitor connection.", 87 VCMPST1/RP96/RF0 (io), 88 VCMPST2/RP97/RF1 (io), 89 RP113/RG1 (io), 90 RP112/RG0 (io), 91 AN22/RPI22/RA6 (io), 92 AN23/RPI23/RA7 (io), 93 AN24/PWM1L/PMD0/RP80/RE0 (io), 94 AN25/PWM1H/PMD1/RPI81/RE1 (io), 95 RP126/RG14 (io), 96 RPI124/RG12 (io), 97 RP125/RG13 (io), 98 AN26/PWM2L/PMD2/RP82/RE2 (io), 99 AN27/PWM2H/PMD3/RPI83/RE3 (io), 100 AN28/PWM3L/PMD4/RP84/RE4 (io)
part B pins: 2 VDD (power) "Positive supply for peripheral logic and I/O pins.", 15 VSS (power) "Ground reference for logic and I/O pins.", 16 VDD (power) "Positive supply for peripheral logic and I/O pins.", 30 AVDD (power) "Positive supply for analog modules. This pin must be connected at all times.", 31 AVSS (power) "Ground reference for analog modules.", 36 VSS (power) "Ground reference for logic and I/O pins.", 37 VDD (power) "Positive supply for peripheral logic and I/O pins.", 45 VSS (power) "Ground reference for logic and I/O pins.", 46 VDD (power) "Positive supply for peripheral logic and I/O pins.", 54 VBUS (power) "USB bus power monitor.", 55 VUSB3V3 (power) "USB internal transceiver supply. If the USB module is not being used, this pin must be connected to VDD.", 62 VDD (power) "Positive supply for peripheral logic and I/O pins.", 65 VSS (power) "Ground reference for logic and I/O pins.", 75 VSS (power) "Ground reference for logic and I/O pins.", 86 VDD (power) "Positive supply for peripheral logic and I/O pins."

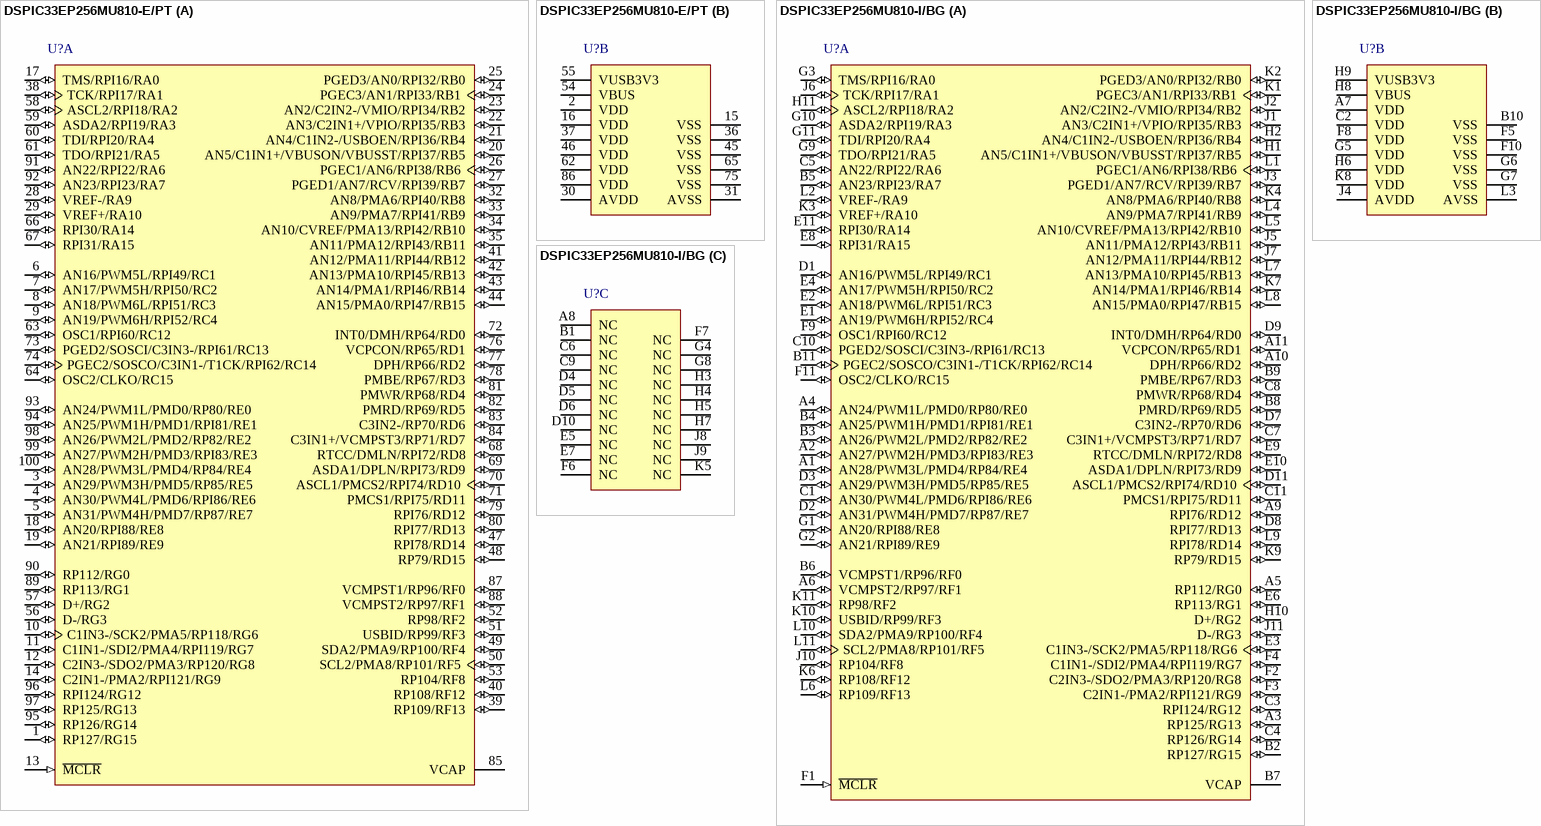
[diagram p26: symbols DSPIC33EP256MU810-E/PT to DSPIC33EP256MU810-I/BG]

## DSPIC33EP256MU810-E/PT
designator U?
16-Bit Microcontroller and Digital Signal Controller with High-Speed PWM, USB and Advanced Analog, 70 MIPS, 83 I/O, PMP, -40 to 125 degC, 100-pin TQFP (PT100), Tray; Manufacturer: Microchip; PartNumber: DSPIC33EP256MU810-E/PT; DatasheetVersion: Rev. G; PackageVersion: C04-100B; PackageReference: TQFP-PT100; PackageDescription: 100-Lead Plastic Thin Quad Flatpack, 12 x 12 mm Body, 0.4 mm Pitch; Supplier 1: Digi-Key; Supplier Part Number 1: DSPIC33EP256MU810-E/PT-ND; Supplier 2: Mouser; Supplier Part Number 2: 579-PIC33256MU810T; Mounting Technology: Surface Mount; ComponentLink1Description: Manufacturer URL; ComponentLink1URL: http://www.microchip.com; ComponentLink2Description: Datasheet; ComponentLink2URL: http://ww1.microchip.com/downloads/en/DeviceDoc/70616g.pdf; ComponentLink3Description: Package Specification; ComponentLink3URL: http://www.microchip.com/stellent/groups/techpub_sg/documents/packagingspec/en012702.pdf; ComponentLink4Description: Product URL; ComponentLink4URL: http://www.microchip.com/dsPIC33EP256MU810
footprint MCHP-TQFP-PT100_N (QFP, 100-Leads, Body 12x12mm, Pitch 0.4mm, IPC Medium Density)
footprint MCHP-TQFP-PT100_L (QFP, 100-Leads, Body 12x12mm, Pitch 0.4mm, IPC High Density)
footprint MCHP-TQFP-PT100_M (TQFP, 100-Leads, Body 12x12mm, Pitch 0.4mm, IPC Low Density)
part A pins: 1 RP127/RG15 (io), 3 AN29/PWM3H/PMD5/RP85/RE5 (io), 4 AN30/PWM4L/PMD6/RPI86/RE6 (io), 5 AN31/PWM4H/PMD7/RP87/RE7 (io), 6 AN16/PWM5L/RPI49/RC1 (io), 7 AN17/PWM5H/RPI50/RC2 (io), 8 AN18/PWM6L/RPI51/RC3 (io), 9 AN19/PWM6H/RPI52/RC4 (io), 10 C1IN3-/SCK2/PMA5/RP118/RG6 (io), 11 C1IN1-/SDI2/PMA4/RPI119/RG7 (io), 12 C2IN3-/SDO2/PMA3/RP120/RG8 (io), 13 ~{MCLR} (in) "Master Clear (Reset) input. This pin is an active-low Reset to the device.", 14 C2IN1-/PMA2/RPI121/RG9 (io), 17 TMS/RPI16/RA0 (io), 18 AN20/RPI88/RE8 (io), 19 AN21/RPI89/RE9 (io), 20 AN5/C1IN1+/VBUSON/VBUSST/RPI37/RB5 (io), 21 AN4/C1IN2-/USBOEN/RPI36/RB4 (io), 22 AN3/C2IN1+/VPIO/RPI35/RB3 (io), 23 AN2/C2IN2-/VMIO/RPI34/RB2 (io), 24 PGEC3/AN1/RPI33/RB1 (io), 25 PGED3/AN0/RPI32/RB0 (io), 26 PGEC1/AN6/RPI38/RB6 (io), 27 PGED1/AN7/RCV/RPI39/RB7 (io), 28 VREF-/RA9 (io), 29 VREF+/RA10 (io), 32 AN8/PMA6/RPI40/RB8 (io), 33 AN9/PMA7/RPI41/RB9 (io), 34 AN10/CVREF/PMA13/RPI42/RB10 (io), 35 AN11/PMA12/RPI43/RB11 (io), 38 TCK/RPI17/RA1 (io), 39 RP109/RF13 (io), 40 RP108/RF12 (io), 41 AN12/PMA11/RPI44/RB12 (io), 42 AN13/PMA10/RPI45/RB13 (io), 43 AN14/PMA1/RPI46/RB14 (io), 44 AN15/PMA0/RPI47/RB15 (io), 47 RPI78/RD14 (io), 48 RP79/RD15 (io), 49 SDA2/PMA9/RP100/RF4 (io), 50 SCL2/PMA8/RP101/RF5 (io), 51 USBID/RP99/RF3 (io), 52 RP98/RF2 (io), 53 RP104/RF8 (io), 56 D-/RG3 (io), 57 D+/RG2 (io), 58 ASCL2/RPI18/RA2 (io), 59 ASDA2/RPI19/RA3 (io), 60 TDI/RPI20/RA4 (io), 61 TDO/RPI21/RA5 (io), 63 OSC1/RPI60/RC12 (io), 64 OSC2/CLKO/RC15 (io), 66 RPI30/RA14 (io), 67 RPI31/RA15 (io), 68 RTCC/DMLN/RPI72/RD8 (io), 69 ASDA1/DPLN/RPI73/RD9 (io), 70 ASCL1/PMCS2/RPI74/RD10 (io), 71 PMCS1/RPI75/RD11 (io), 72 INT0/DMH/RP64/RD0 (io), 73 PGED2/SOSCI/C3IN3-/RPI61/RC13 (io), 74 PGEC2/SOSCO/C3IN1-/T1CK/RPI62/RC14 (io), 76 VCPCON/RP65/RD1 (io), 77 DPH/RP66/RD2 (io), 78 PMBE/RP67/RD3 (io), 79 RPI76/RD12 (io), 80 RPI77/RD13 (io), 81 PMWR/RP68/RD4 (io), 82 PMRD/RP69/RD5 (io), 83 C3IN2-/RP70/RD6 (io), 84 C3IN1+/VCMPST3/RP71/RD7 (io), 85 VCAP "CPU logic filter capacitor connection.", 87 VCMPST1/RP96/RF0 (io), 88 VCMPST2/RP97/RF1 (io), 89 RP113/RG1 (io), 90 RP112/RG0 (io), 91 AN22/RPI22/RA6 (io), 92 AN23/RPI23/RA7 (io), 93 AN24/PWM1L/PMD0/RP80/RE0 (io), 94 AN25/PWM1H/PMD1/RPI81/RE1 (io), 95 RP126/RG14 (io), 96 RPI124/RG12 (io), 97 RP125/RG13 (io), 98 AN26/PWM2L/PMD2/RP82/RE2 (io), 99 AN27/PWM2H/PMD3/RPI83/RE3 (io), 100 AN28/PWM3L/PMD4/RP84/RE4 (io)
part B pins: 2 VDD (power) "Positive supply for peripheral logic and I/O pins.", 15 VSS (power) "Ground reference for logic and I/O pins.", 16 VDD (power) "Positive supply for peripheral logic and I/O pins.", 30 AVDD (power) "Positive supply for analog modules. This pin must be connected at all times.", 31 AVSS (power) "Ground reference for analog modules.", 36 VSS (power) "Ground reference for logic and I/O pins.", 37 VDD (power) "Positive supply for peripheral logic and I/O pins.", 45 VSS (power) "Ground reference for logic and I/O pins.", 46 VDD (power) "Positive supply for peripheral logic and I/O pins.", 54 VBUS (power) "USB bus power monitor.", 55 VUSB3V3 (power) "USB internal transceiver supply. If the USB module is not being used, this pin must be connected to VDD.", 62 VDD (power) "Positive supply for peripheral logic and I/O pins.", 65 VSS (power) "Ground reference for logic and I/O pins.", 75 VSS (power) "Ground reference for logic and I/O pins.", 86 VDD (power) "Positive supply for peripheral logic and I/O pins."